# Altium schematic symbol library max232.SchLib: 1 symbol
Pins are listed as number, name and electrical type; pins without a type are passive.

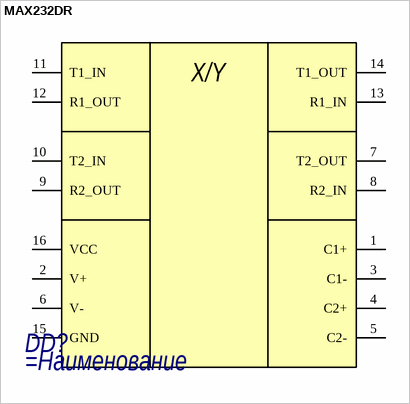
[diagram p0: symbol MAX232DR]

## MAX232DR
designator DD?
=Описание
pins: 1 C1+, 2 V+, 3 C1-, 4 C2+, 5 C2-, 6 V-, 7 T2_OUT, 8 R2_IN, 9 R2_OUT, 10 T2_IN, 11 T1_IN, 12 R1_OUT, 13 R1_IN, 14 T1_OUT, 15 GND, 16 VCC
text: X/Y